# EAGLE library part 5177983-4 (library SamacSys_Parts)
100 way 0.8mm pitch SMT socket,5mm H Source: Datasheet <https://www.te.com/commerce/DocumentDelivery/DDEController?Action=showdoc&DocId=Customer Drawing5177983C1pdfEnglishENG_CD_5177983_C1.pdf5177983-4>
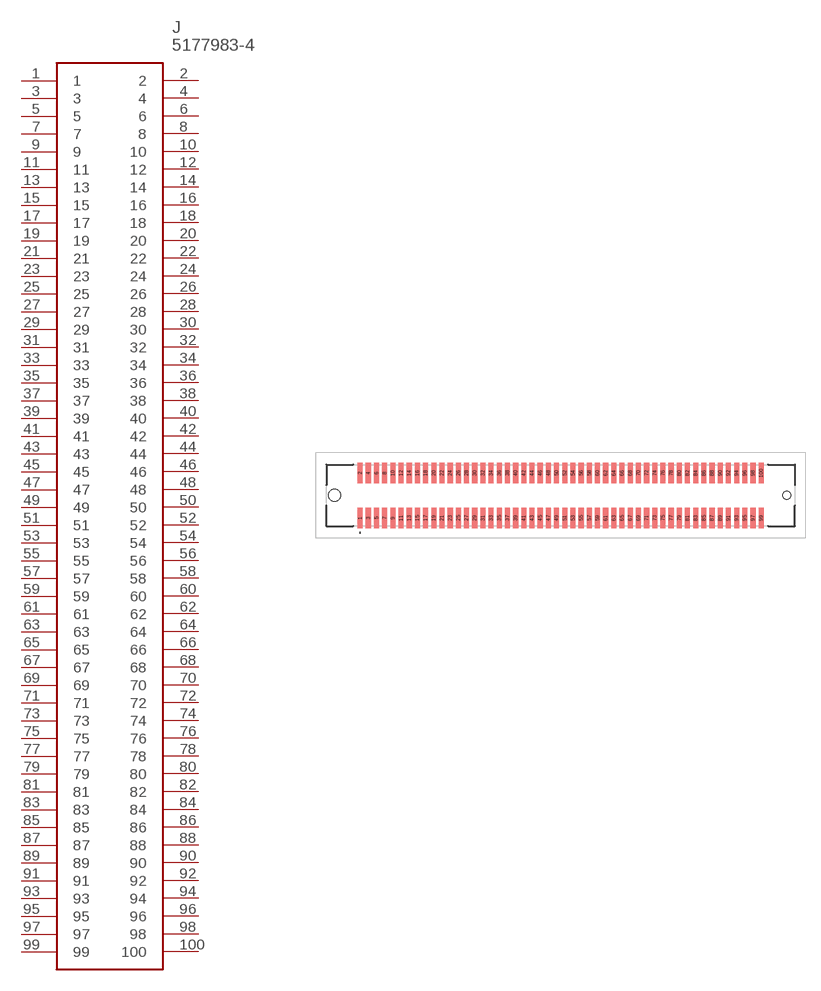
[diagram p183: symbol with the pads of 51779834; footprint 51779834]

Designator prefix J

## 5177983-4 (DESCRIPTION: 100 way 0.8mm pitch SMT socket,5mm H; HEIGHT: 4mm; MANUFACTURER_NAME: TE Connectivity; MANUFACTURER_PART_NUMBER: 5177983-4; MOUSER_PART_NUMBER: 571-5177983-4; MOUSER_PRICE-STOCK: https://www.mouser.co.uk/ProductDetail/TE-Connectivity/5177983-4?qs=qXiacGHOv6I5ACszb9ZJmQ%3D%3D)  [51779834]
1  1
2  2
3  3
4  4
5  5
6  6
7  7
8  8
9  9
10  10
11  11
12  12
13  13
14  14
15  15
16  16
17  17
18  18
19  19
20  20
21  21
22  22
23  23
24  24
25  25
26  26
27  27
28  28
29  29
30  30
31  31
32  32
33  33
34  34
35  35
36  36
37  37
38  38
39  39
40  40
41  41
42  42
43  43
44  44
45  45
46  46
47  47
48  48
49  49
50  50
51  51
52  52
53  53
54  54
55  55
56  56
57  57
58  58
59  59
60  60
61  61
62  62
63  63
64  64
65  65
66  66
67  67
68  68
69  69
70  70
71  71
72  72
73  73
74  74
75  75
76  76
77  77
78  78
79  79
80  80
81  81
82  82
83  83
84  84
85  85
86  86
87  87
88  88
89  89
90  90
91  91
92  92
93  93
94  94
95  95
96  96
97  97
98  98
99  99
100  100

## Footprint 51779834 (pad centres in mm)
5177983-4-2
smd 0.5 x 2: 1 -19.6,-2.2; 2 -19.6,2.2; 3 -18.8,-2.2; 4 -18.8,2.2; 5 -18,-2.2; 6 -18,2.2; 7 -17.2,-2.2; 8 -17.2,2.2; 9 -16.4,-2.2; 10 -16.4,2.2; 11 -15.6,-2.2; 12 -15.6,2.2; 13 -14.8,-2.2; 14 -14.8,2.2; 15 -14,-2.2; 16 -14,2.2; 17 -13.2,-2.2; 18 -13.2,2.2; 19 -12.4,-2.2; 20 -12.4,2.2; 21 -11.6,-2.2; 22 -11.6,2.2; 23 -10.8,-2.2; 24 -10.8,2.2; 25 -10,-2.2; 26 -10,2.2; 27 -9.2,-2.2; 28 -9.2,2.2; 29 -8.4,-2.2; 30 -8.4,2.2; 31 -7.6,-2.2; 32 -7.6,2.2; 33 -6.8,-2.2; 34 -6.8,2.2; 35 -6,-2.2; 36 -6,2.2; 37 -5.2,-2.2; 38 -5.2,2.2; 39 -4.4,-2.2; 40 -4.4,2.2; 41 -3.6,-2.2; 42 -3.6,2.2; 43 -2.8,-2.2; 44 -2.8,2.2; 45 -2,-2.2; 46 -2,2.2; 47 -1.2,-2.2; 48 -1.2,2.2; 49 -0.4,-2.2; 50 -0.4,2.2; 51 0.4,-2.2; 52 0.4,2.2; 53 1.2,-2.2; 54 1.2,2.2; 55 2,-2.2; 56 2,2.2; 57 2.8,-2.2; 58 2.8,2.2; 59 3.6,-2.2; 60 3.6,2.2; 61 4.4,-2.2; 62 4.4,2.2; 63 5.2,-2.2; 64 5.2,2.2; 65 6,-2.2; 66 6,2.2; 67 6.8,-2.2; 68 6.8,2.2; 69 7.6,-2.2; 70 7.6,2.2; 71 8.4,-2.2; 72 8.4,2.2; 73 9.2,-2.2; 74 9.2,2.2; 75 10,-2.2; 76 10,2.2; 77 10.8,-2.2; 78 10.8,2.2; 79 11.6,-2.2; 80 11.6,2.2; 81 12.4,-2.2; 82 12.4,2.2; 83 13.2,-2.2; 84 13.2,2.2; 85 14,-2.2; 86 14,2.2; 87 14.8,-2.2; 88 14.8,2.2; 89 15.6,-2.2; 90 15.6,2.2; 91 16.4,-2.2; 92 16.4,2.2; 93 17.2,-2.2; 94 17.2,2.2; 95 18,-2.2; 96 18,2.2; 97 18.8,-2.2; 98 18.8,2.2; 99 19.6,-2.2; 100 19.6,2.2
hole 1.2 at -22.1,0
hole 0.8 at 22.1,0